# Altium footprint library SL_Indicators.PcbLib: 2 footprints
Each footprint in its own frame and in the unit in brackets; x right, y up, seen from the top. Pads: shape width x height; smd on the part's side, far side on the other; paste and mask are expansions set on the pad; w line width, h text height; cw(c..) or ccw(c..) is an arc to the next point about the centre after c.
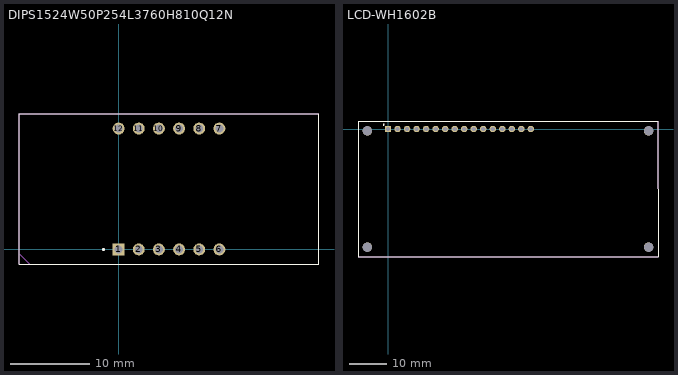
[diagram p0: the footprints below, top view; thin cyan lines are the x and y axes]

## DIPS1524W50P254L3760H810Q12N [mm]
pads (12):
  rect 1.5x1.5 hole 1: 1(0,0)
  round 1.5 hole 1: 2(2.54,0) 3(5.08,0) 4(7.62,0) 5(10.16,0) 6(12.7,0) 7(12.7,15.24) 8(10.16,15.24) 9(7.62,15.24) 10(5.08,15.24) 11(2.54,15.24) 12(0,15.24)
Top Overlay:
  circle w0.2: c-1.905,0 r0.1
  lines w0.1: -12.55,-1.88 25.25,-1.88 25.25,17.12 -12.55,17.12 -12.55,-1.88
Mechanical 13:
  lines w0.1: -12.45,-0.61 -11.18,-1.88 ; -12.55,-1.88 25.25,-1.88 25.25,17.12 -12.55,17.12 -12.55,-1.88
Mechanical 15:
  lines w0.1: -12.55,-1.88 25.25,-1.88 25.25,17.12 -12.55,17.12 -12.55,-1.88
3D body "GNT-5631.STEP": height 10, standoff -4, extent -12.55,-1.88 25.25,17.12

## LCD-WH1602B [mm]
pads (20):
  rect 1.725x1.725 hole 1.15: 1(0,0)
  round 1.725 hole 1.15: 2(2.54,0) 3(5.08,0) 4(7.62,0) 5(10.16,0) 6(12.7,0) 7(15.24,0) 8(17.78,0) 9(20.32,0) 10(22.86,0) 11(25.4,0) 12(27.94,0) 13(30.48,0) 14(33.02,0) 15(35.56,0) 16(38.1,0)
  round 2.5 hole 2.5 unplated: ""(-5.5,-31.5) ""(-5.5,-0.5) ""(69.5,-31.5) ""(69.5,-0.5)
Top Overlay:
  circle w0.2: c-1.143,1.143 r0.1
  lines w0.1: -8,-34.036 72.009,-34.036 72.009,2.032 -8,2.032 -8,-34.036
Mechanical 13:
  lines w0.1: -8.001,-34.036 -8.001,2.032 72.009,2.032 72.009,-34.036 -8.001,-34.036
Mechanical 15:
  lines w0.1: -8.001,-34.036 72.009,-34.036 72.009,2.032 -8.001,2.032 -8.001,-34.036
3D body "Winstar WH1602B.stp": height 20.2, standoff 7.2, extent -8,-34 72,2